# Altium schematic symbol library Chickenfood.SchLib: 5 symbols
Pins are listed as number, name and electrical type; pins without a type are passive.

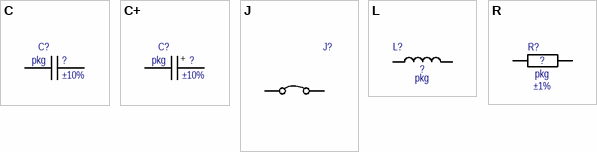
[diagram p0: symbols C to R]

## C
designator C?  Tolerance: ±10%  Package: pkg  (hidden comment: C)
Capacitor Unpolarized; ESR: mΩ @ Hz; ComponentLink1Description: Info; 09. Operating Temperature: -55°C ~ 125°C; 11. RoHS: YES; 01. Distributor: DigiKey; ComponentLink2Description: DataSheet; Value: ?
simulation model CAP (Capacitor)
signal-integrity model Cap
footprint C0201 (Chip Capacitor; Body 1.0x0.5mm (LxW typ), IPC High Density)
footprint C0402 (Chip Capacitor; Body 1.0x0.5mm (LxW typ), IPC High Density)
footprint C0603 (Chip Capacitor; Body 1.6x0.8mm (LxW typ), IPC High Density)
footprint C0805 (Chip Capacitor; Body 2.0x1.3mm (LxW typ), IPC High Density)
footprint C1206 (Chip Capacitor; Body 3.2x1.6mm (LxW typ), IPC High Density)
footprint C1210 (Chip Capacitor; Body 3.2x2.5mm (LxW typ), IPC High Density)
footprint C1808 (Chip Capacitor; Body 4.7x2.0mm (LxW typ), IPC High Density)
footprint C1812 (Chip Capacitor; Body 4.5x3.2mm (LxW typ), IPC High Density)
footprint C1825 (Chip Capacitor; Body 4.5x6.4mm (LxW typ), IPC High Density)
footprint C2220 (Chip Capacitor; Body 5.7x5.0(LxW typ), IPC High Density)
footprint C2225 (Chip Capacitor; Body 5.6x6.4(LxW typ), IPC High Density)
pins: 1, 2

## C+
designator C?  Tolerance: ±10%  Package: pkg  (hidden comment: C+)
Capacitor Polarized; ESR: mΩ @ Hz; ComponentLink1Description: Info; 09. Operating Temperature: -55°C ~ 125°C; 11. RoHS: YES; 01. Distributor: DigiKey; ComponentLink2Description: DataSheet; Value: ?
simulation model CAP (Capacitor)
signal-integrity model Cap
footprint C1206 + (Chip Capacitor; Body 3.2x1.6mm (LxW typ), IPC High Density)
footprint C1210+ (Chip Capacitor; Body 3.2x2.5mm (LxW typ), IPC High Density)
footprint C2312+ (Chip Capacitor; Body 5.6x6.4(LxW typ), IPC High Density)
footprint SMD-CAP-ALU-A (Ø3.0mm x 5.4mm)
footprint SMD-CAP-ALU-B (Ø4.0mm x 5.4mm)
footprint SMD-CAP-ALU-C (Ø5.0mm x 5.4mm)
footprint SMD-CAP-ALU-D (Ø6.3mm x 5.4mm)
footprint SMD-CAP-ALU-D8 (Ø6.3mm x 7.7mm)
footprint SMD-CAP-ALU-E (Ø8.0mm x 6.2mm)
footprint SMD-CAP-ALU-F (Ø8.0mm x 10.2mm)
footprint SMD-CAP-ALU-G (Ø10.0mm x 10.2mm)
footprint SMD-CAP-ALU-G (Ø10.0mm x 10.2mm)
footprint SMD-CAP-ALU-G13 (Ø10.0mm x 13.5mm)
footprint SMD-CAP-ALU-G17 (Ø10.0mm x 16.5mm)
footprint SMD-CAP-ALU-H16 (Ø12.5mm x 16.5mm)
footprint SMD-CAP-ALU-K16 (Ø18mm x 16.5mm)
pins: 1, 2
text: +

## J
designator J?  (value not drawn)
Jumper; Power Rating: 1/16W; Voltage Rating: 50V; Value: 0; ComponentLink1Description: Info; 09. Operating Temperature: -55°C ~ 155°C; 11. RoHS: YES; 01. Distributor: DigiKey; ComponentLink2Description: DataSheet; Type: Thick Film; Temperature Range: -55°C/+125°C; Package: pkg
simulation model RESISTOR (Resistor)
signal-integrity model Res
footprint R0402 (Chip Resistor, Body 1.1x0.5mm (LxW typ), IPC High Density)
footprint R0603 (Chip Resistor, Body 1.6x0.8mm (LxW typ), IPC High Density)
footprint R0201 (Chip Resistor, Body 0.6x0.3mm (LxW typ), IPC High Density)
footprint R0805 (Chip Resistor, Body 2.0x1.3mm (LxW typ), IPC High Density)
footprint R1206 (Chip Resistor, Body 3.2x1.6mm (LxW typ), IPC High Density)
footprint R1210 (Chip Resistor, Body 3.2x2.5mm (LxW typ), IPC High Density)
footprint R1812 (Chip Resistor, Body 4.5x3.2mm (LxW typ), IPC High Density)
footprint R2010 (Chip Resistor, Body 5.0x2.5mm (LxW typ), IPC High Density)
footprint R2512 (Chip Resistor, Body 6.3x3.2mm (LxW typ), IPC High Density)
pins: 1, 2

## L
designator L?  Package: pkg  (hidden comment: L)
Inductor; DC Resistance: 15mΩ; ComponentLink1Description: Info; ComponentLink2Description: DataSheet; 09. Operating Temperature: -55°C ~ 125°C; 11. RoHS: YES; 01. Distributor: DigiKey; Value: ?
footprint L0603
footprint L0805
footprint L1812 (Chip Capacitor; Body 4.5x3.2mm (LxW typ), IPC High Density)
footprint L1210 (Inductor, Body 3.2x2.5mm (LxW typ))
pins: 1, 2

## R
designator R?  Package: pkg  Tolerance: ±1%  (hidden comment: R)
Resistor; Power Rating: 1/16W; Voltage Rating: 50V; ComponentLink1Description: Info; 09. Operating Temperature: -55°C ~ 155°C; 11. RoHS: YES; 01. Distributor: DigiKey; ComponentLink2Description: DataSheet; Type: Thick Film; Value: ?
simulation model RESISTOR (Resistor)
signal-integrity model Res
footprint R0402 (Chip Resistor, Body 1.1x0.5mm (LxW typ), IPC High Density)
footprint R0603 (Chip Resistor, Body 1.6x0.8mm (LxW typ), IPC High Density)
footprint R0201 (Chip Resistor, Body 0.6x0.3mm (LxW typ), IPC High Density)
footprint R0805 (Chip Resistor, Body 2.0x1.3mm (LxW typ), IPC High Density)
footprint R1206 (Chip Resistor, Body 3.2x1.6mm (LxW typ), IPC High Density)
footprint R1210 (Chip Resistor, Body 3.2x2.5mm (LxW typ), IPC High Density)
footprint R1812 (Chip Resistor, Body 4.5x3.2mm (LxW typ), IPC High Density)
footprint R2010 (Chip Resistor, Body 5.0x2.5mm (LxW typ), IPC High Density)
footprint R2512 (Chip Resistor, Body 6.3x3.2mm (LxW typ), IPC High Density)
pins: 1, 2